# Altium schematic symbol library SCH - CHARGER - UMW TP4057.SchLib: 1 symbol
Pins are listed as number, name and electrical type; pins without a type are passive.

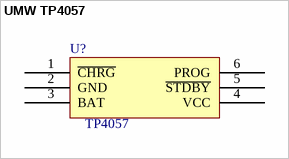
[diagram p0: symbol UMW TP4057]

## UMW TP4057
designator U?, comment TP4057
500mA Linear Li-Ion Battery Charger; ComponentLink1Description: Datasheet; ComponentLink1URL: https://pdf1.alldatasheet.com/datasheet-pdf/view/1134940/TPOWER/TP4057.html
pins: 1 ~{CHRG}, 2 GND, 3 BAT, 4 VCC, 5 ~{STDBY}, 6 PROG